# Altium footprint library SC70-6.PcbLib: 1 footprints
Each footprint in its own frame and in the unit in brackets; x right, y up, seen from the top. Pads: shape width x height; smd on the part's side, far side on the other; paste and mask are expansions set on the pad; w line width, h text height; cw(c..) or ccw(c..) is an arc to the next point about the centre after c.
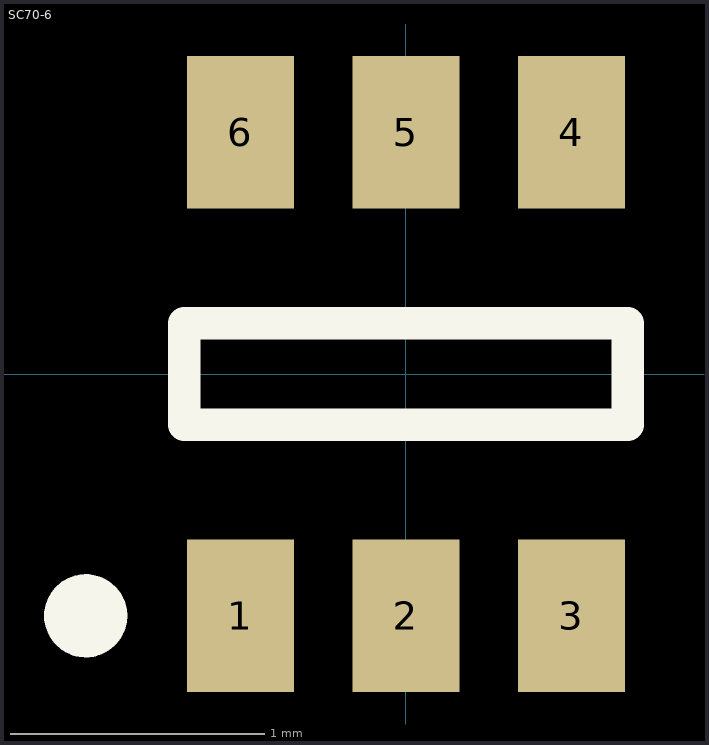
[diagram p0: the footprint, top view; thin cyan lines are the x and y axes]

## SC70-6 [mm]
pads (6):
  rect 0.42x0.6 smd: 1(-0.65,-0.95) 2(0,-0.95) 3(0.65,-0.95) 4(0.65,0.95) 5(0,0.95) 6(-0.65,0.95)
Top Overlay:
  circle w0.127: c-1.258,-0.95 r0.1
  circle w0.127: c-1.245,-0.94 r0.025
  lines w0.127: -0.871,-0.2 0.871,-0.2 0.871,0.2 -0.871,0.2 -0.871,-0.2
3D body: height 1, standoff 0, extent -1.041,-1.15 1.059,1.15